# Altium schematic symbol library lib_ic_CAP.SchLib: 33 symbols
Pins are listed as number, name and electrical type; pins without a type are passive.

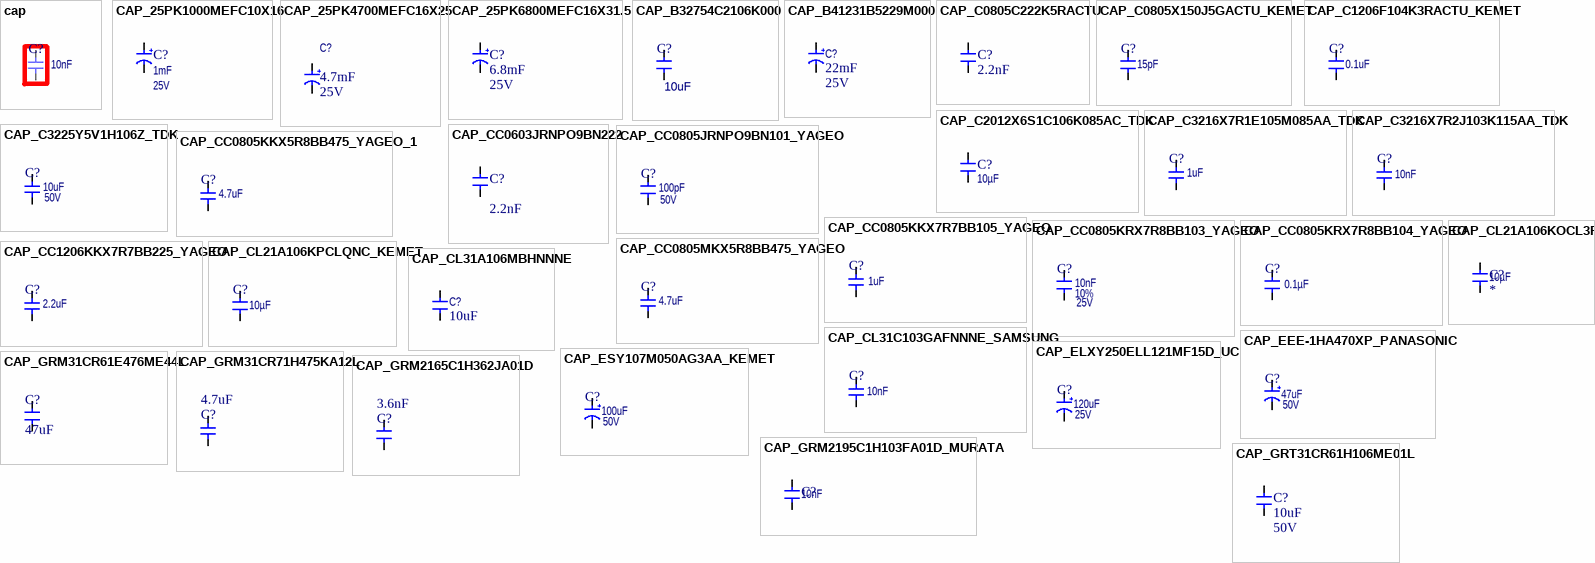
[diagram p0: symbols cap to CAP_GRT31CR61H106ME01L]

## cap
designator C?  value 10nF  (hidden comment: *)
Manufacturer: Samsung; Part Number: CL31C103GAFNNNE; Tolerance: 2%; Voltage Rating: 25V; Supplier: *; Supplier Part No: *; Power Rating: *; BOM Populate: *; #Digikey: 1276-2830-1-ND
footprint CAPC2013X110N (Chip Capacitor, 0805, Body 2.0x1.3mm, IPC Medium Density)
pins: 1 T1, 2 T2

## CAP_25PK1000MEFC10X16
designator C?  Capacitance: 1mF  Voltage: 25V  (hidden comment: *)
CAP ALUM 1000UF 20% 25V RADIAL; Manufacturer: Rubycon; Manufacturer Part Number: 25PK1000MEFC10X16; Ripple Current: 870mA; Leakage Current: 3uA; Life (Hours): 2000Hour; Lead Diameter: 0.6mm; Supplier 1: Digi-Key; Supplier Part Number 1: 1189-1217-ND; RoHS: Yes; Category: Aluminum Electrolytic Capacitors; Stock 1: 3614; Pricing 1: 1=0,52000, 10=0,36400, 50=0,27560, 100=0,24000, 500=0,17780, 1000=0,15113, 2500=0,14224, 5000=0,13335 (USD); Mount: Through Hole; Case/Package: Radial; Number of Pins: 2; Min Operating Temperature: -40°C; Max Operating Temperature: 85°C; Tolerance: 20%; Termination: Radial; Voltage Rating (DC): 25V; Package Quantity: 1000; Voltage Rating: 25V; Packaging: Bulk; Diameter: 10mm; Height: 16mm; Lead Pitch: 5mm; Height - Seated (Max): 0.689inch; Radiation Hardening: No; REACH SVHC: Unknown; ComponentLink1URL: https://datasheet.ciiva.com/25614/0900766b810f8819-25614293.pdf?src-supplier=RSComponents; ComponentLink1Description: https://datasheet.ciiva.com/25614/0900766b810f8819-25614293.pdf?src-supplier=RSComponents; ComponentLink2URL: https://datasheet.ciiva.com/17514/e-pk-17514519.pdf?src-supplier=Avnet+Europe; ComponentLink2Description: https://datasheet.ciiva.com/17514/e-pk-17514519.pdf?src-supplier=Avnet+Europe; ComponentLink3URL: https://datasheet.ciiva.com/6328/e-pk-6328392.pdf?src-supplier=Digi-Key; ComponentLink3Description: https://datasheet.ciiva.com/6328/e-pk-6328392.pdf?src-supplier=Digi-Key
footprint CAP25PK1000MEFC10X16
pins: 1, 2

## CAP_25PK4700MEFC16X25
designator C?  value 4.7mF  Voltage: 25V  (hidden comment: *)
CAP ALUM 4700UF 20% 25V RADIAL; Manufacturer: Rubycon; Manufacturer Part Number: 25PK4700MEFC16X25; Ripple Current: 2.12A; Leakage Current: 3uA; Life (Hours): 2000Hour; Lead Diameter: 0.8mm; Supplier 1: Digi-Key; Supplier Part Number 1: 1189-1732-ND; RoHS: Yes; Category: Aluminum Electrolytic Capacitors; Stock 1: 2308; Pricing 1: 1=1,26000, 10=0,99600, 50=0,86300, 100=0,74680, 500=0,56424, 1000=0,49785, 2500=0,46466, 5000=0,44807 (USD); Mount: Through Hole; Case/Package: Radial; Number of Pins: 2; Min Operating Temperature: -40°C; Max Operating Temperature: 85°C; Capacitance: 4.7mF; Termination: Radial; Voltage Rating: 25V; Ripple Current (AC): 2.12A; Package Quantity: 600; Packaging: Bulk; Voltage Rating (DC): 25V; Diameter: 16mm; Height: 25mm; Lead Pitch: 7.5mm; Height - Seated (Max): 1.063inch; Radiation Hardening: No; REACH SVHC: Unknown; ComponentLink1URL: https://datasheet.ciiva.com/25614/0900766b810f8819-25614291.pdf?src-supplier=RSComponents; ComponentLink1Description: https://datasheet.ciiva.com/25614/0900766b810f8819-25614291.pdf?src-supplier=RSComponents; ComponentLink2URL: https://datasheet.ciiva.com/6312/e-pk-6312270.pdf?src-supplier=Digi-Key; ComponentLink2Description: https://datasheet.ciiva.com/6312/e-pk-6312270.pdf?src-supplier=Digi-Key; Tolerance: 20%
footprint CAP25PK4700MEFC16X25
pins: 1, 2

## CAP_25PK6800MEFC16X31.5
designator C?  Capacitance: 6.8mF  Voltage Rating: 25V  (hidden comment: *)
CAP ALUM 6800UF 20% 25V RADIAL; Manufacturer: Rubycon; Manufacturer Part Number: 25PK6800MEFC16X31.5; Ripple Current: 2.44A; Polarity: Polar; Life (Hours): 2000Hour; Supplier 1: Digi-Key; Supplier Part Number 1: 1189-1221-ND; RoHS: Yes; Category: Aluminum Electrolytic Capacitors; Stock 1: 1157; Pricing 1: 1=1,68000, 10=1,32800, 50=1,15120, 100=0,99630, 500=0,75276, 1000=0,66420, 2500=0,61992, 5000=0,59778 (USD); Mount: Through Hole; Case/Package: Radial; Number of Pins: 2; Min Operating Temperature: -40°C; Max Operating Temperature: 85°C; Tolerance: 20%; Termination: Radial; Voltage Rating (DC): 25V; Ripple Current (AC): 2.44A; Package Quantity: 200; Packaging: Bulk; Diameter: 16mm; Height: 31.5mm; Lead Pitch: 7.5mm; Height - Seated (Max): 1.299inch; Radiation Hardening: No; REACH SVHC: Unknown; ComponentLink1URL: https://datasheet.ciiva.com/11692/e-pk-11692263.pdf?src-supplier=Avnet; ComponentLink1Description: https://datasheet.ciiva.com/11692/e-pk-11692263.pdf?src-supplier=Avnet; ComponentLink2URL: https://datasheet.ciiva.com/17514/e-pk-17514538.pdf?src-supplier=Avnet+Europe; ComponentLink2Description: https://datasheet.ciiva.com/17514/e-pk-17514538.pdf?src-supplier=Avnet+Europe
footprint CAP25PK6800MEFC16X31
pins: 1, 2

## CAP_B32754C2106K000
designator C?  Capacitance: 10uF
Cap Film 10uF 500V PP 10% (31.5 X 22 X 36.5mm) Dipped Radial 27.5mm 105°C Bulk; Manufacturer: TDK EPCOS; Manufacturer Part Number: B32754C2106K000; Voltage Rating (AC): 250V; ESR (Equivalent Series Resistance): 4.2mR; Supplier 1: Digi-Key; RoHS: No; Category: Film Capacitors; Stock 1: 338; Pricing 1: 1=5,13000, 10=4,62000, 50=4,00380, 100=3,49040, 500=2,87448, 1000=2,78648 (USD); Mount: Through Hole; Case/Package: Radial; Dielectric Material: PP; Min Operating Temperature: -40°C; Max Operating Temperature: 105°C; Packaging: Bulk; Tolerance: 10%; Voltage Rating (DC): 500V; Termination: PC Pins; RoHS Compliant: No; ComponentLink1URL: https://en.tdk.eu/inf/20/20/ds/MKP_B32754_758.pdf?src-supplier=Digi-Key; ComponentLink1Description: https://en.tdk.eu/inf/20/20/ds/MKP_B32754_758.pdf?src-supplier=Digi-Key; Supplier Part Number 1: 495-76101-ND
footprint C180H110
pins: 1 T1, 2 T2

## CAP_B41231B5229M000
designator C?  value 22mF  Voltage Rating: 25V  (hidden comment: *)
Cap Aluminum Lytic 22000uF 25V 20% (35 X 30mm) Snap-In 10mm 5510mA 2000h 85C Bulk; Manufacturer: TDK EPCOS; Manufacturer Part Number: B41231B5229M000; Dielectric Material: Aluminium; Ripple Current: 5.51A; Life (Hours): 2000Hour; Dissipation Factor: 0.4%; Test Frequency: 120Hz; Lead Diameter: 0.8mm; Supplier 1: Mouser; Supplier Part Number 1: 871-B41231B5229M000; RoHS: Yes; Category: Aluminum Electrolytic Capacitors; Stock 1: 96; Pricing 1: 1=3,59000, 10=2,90000, 100=2,26000, 250=1,86000, 500=1,68000, 1000=1,57000 (USD); Mount: Through Hole; Case/Package: Aluminum; Number of Pins: 2; Contact Plating: Tin; Min Operating Temperature: -40°C; Max Operating Temperature: 85°C; Package Quantity: 60; Voltage Rating (DC): 25V; Capacitance: 22mF; Tolerance: 20%; Packaging: Bulk; Termination: Snap in; Diameter: 35mm; Length: 45mm; Height: 30mm; Lead Pitch: 10mm; REACH SVHC: No SVHC; ComponentLink1URL: http://components.arrow.com/part/dataview/0323_01877614?src-supplier=Arrow+Europe; ComponentLink1Description: http://components.arrow.com/part/dataview/0323_01877614?src-supplier=Arrow+Europe; ComponentLink2URL: http://www.farnell.com/datasheets/2130718.pdf?src-supplier=Farnell; ComponentLink2Description: http://www.farnell.com/datasheets/2130718.pdf?src-supplier=Farnell; ComponentLink3URL: http://www.farnell.com/datasheets/1884917.pdf?src-supplier=Element14; ComponentLink3Description: http://www.farnell.com/datasheets/1884917.pdf?src-supplier=Element14; ComponentLink4URL: http://en.tdk.eu/inf/20/30/db/aec_2015/B41252.pdf?src-supplier=Mouser; ComponentLink4Description: http://en.tdk.eu/inf/20/30/db/aec_2015/B41252.pdf?src-supplier=Mouser; ComponentLink5URL: http://www.epcos.com/inf/20/30/db/aec_2011/B41231.pdf?src-supplier=Avnet; ComponentLink5Description: http://www.epcos.com/inf/20/30/db/aec_2011/B41231.pdf?src-supplier=Avnet
pins: 1, 2

## CAP_C0805C222K5RACTU
designator C?  value 2.2nF  (hidden comment: *)
Cap Ceramic 0.0022uF 50V X7R 10% SMD 0805 125°C Paper T/R; Manufacturer: KEMET; Manufacturer Part Number: C0805C222K5RACTU; Dissipation Factor: 2.5%; Supplier 1: Digi-Key; Supplier Part Number 1: 399-1151-1-ND; Category: Ceramic Capacitors; Mount: Surface Mount,PCB; Case/Package: 0805; Number of Pins: 2; Dielectric Material: Ceramic; Case Code (Imperial): 0805; Case Code (Metric): 2012; Min Operating Temperature: -55°C; Max Operating Temperature: 125°C; Tolerance: 10%; Packaging: Tape and Reel; Capacitance: 2.2nF; Dielectric: X7R; Voltage Rating (DC): 50V; Voltage: 50V; Package Quantity: 1; Series: C; Voltage Rating: 50V; Termination: SMD/SMT; Construction: Flat; Length: 2mm; Width: 0.049inch; Height: 0.78mm; Depth: 1.25mm; Lead Pitch: 0.75mm; Thickness: 0.035inch; Radiation Hardening: No; RoHS Compliant: Yes; REACH SVHC: No SVHC; ComponentLink1URL: https://datasheet.ciiva.com/28692/1851736-28692973.pdf?src-supplier=Element14; ComponentLink1Description: https://datasheet.ciiva.com/28692/1851736-28692973.pdf?src-supplier=Element14; ComponentLink2URL: https://datasheet.ciiva.com/28584/kem-c1002-x7r-smd-28584143.pdf?src-supplier=Element14; ComponentLink2Description: https://datasheet.ciiva.com/28584/kem-c1002-x7r-smd-28584143.pdf?src-supplier=Element14
footprint CAPC2013X110N (Chip Capacitor, 0805, Body 2.0x1.3mm, IPC Medium Density)
pins: 1 T1, 2 T2

## CAP_C0805X150J5GACTU_KEMET
designator C?  value 15pF  (hidden comment: *)
CAP CER 15PF 50V NP0 0805; Manufacturer: Kemet; Manufacturer Part Number: C0805X150J5GACTU; Tolerance: 5%; Digikey Part Number: 399-7428-1-ND; Supplier: *; Power Rating: *; Voltage Rating: 50V; BOM Populate: *; Mouser Part Number: 80-C0805X150J5G
footprint CAPC2013X110N (Chip Capacitor, 0805, Body 2.0x1.3mm, IPC Medium Density)
pins: 1 T1, 2 T2

## CAP_C1206F104K3RACTU_KEMET
designator C?  value 0.1uF  (hidden comment: *)
CAP CER 0.1UF 25V X7R 1206; Manufacturer: Kemet; Manufacturer Part Number: C1206F104K3RACTU; Tolerance: 5%; Digikey Part Number: 399-5615-1-ND; Supplier: *; Power Rating: *; Voltage Rating: 25V; BOM Populate: *; Mouser Part Number: 80-C1206F104K3R
footprint CAPC3216X135N_B (Chip Capacitor, 1206, UL840 2mm, Body 3.2x1.6mm, IPC Medium Density)
pins: 1 T1, 2 T2

## CAP_C2012X6S1C106K085AC_TDK
designator C?  value 10µF  (hidden comment: *)
CAP CER 10UF 16V 10% X6S 0805; Manufacturer: TDK Corporation; Manufacturer Part Number: C2012X6S1C106K085AC; Supplier: *; Supplier Part No: 4321; Tolerance: 10%; Power Rating: *; BOM Populate: *; Digikey Part Number: 445-14483-1-ND; Mouser Part Number: 810-C2012X6S1C106K0C; Voltage Rating: 16V
footprint CAPC2013X110N (Chip Capacitor, 0805, Body 2.0x1.3mm, IPC Medium Density)
pins: 1 T1, 2 T2

## CAP_C3216X7R1E105M085AA_TDK
designator C?  value 1uF  (hidden comment: *)
1 µF, 25 V, Capacitores cerámicos, X7R, 1206 (3216 métrico), 0.126" L x 0.063" A (3.20 mm x 1.60 mm); Manufacturer: TDK; Manufacturer Part Number: C3216X7R1E105M085AA; Tolerance: 20%; Voltage Rating: 25V; Supplier: *; Supplier Part No: *; Power Rating: *; BOM Populate: *; Digikey Part Number: 445-4024-1-ND; Mouser Part Number: 810-C3216X7R1E105M-2
footprint CAPC3216X135N_B (Chip Capacitor, 1206, UL840 2mm, Body 3.2x1.6mm, IPC Medium Density)
pins: 1 T1, 2 T2

## CAP_C3216X7R2J103K115AA_TDK
designator C?  value 10nF  (hidden comment: *)
10000pF, 630 V, Capacitores cerámicos, X7R, 1206 (3216 métrico), 0.126" L x 0.063" A (3.20 mm x 1.60 mm); Manufacturer: TDK; Manufacturer Part Number: C3216X7R2J103K115AA; Tolerance: 10%; Voltage Rating: 630 V; Supplier: *; Supplier Part No: *; Power Rating: *; BOM Populate: *; Digikey Part Number: 445-2291-1-ND; Mouser Part Number: 810-C3216X7R2J103K
footprint CAPC3216X135N_B (Chip Capacitor, 1206, UL840 2mm, Body 3.2x1.6mm, IPC Medium Density)
pins: 1 T1, 2 T2

## CAP_C3225Y5V1H106Z_TDK
designator C?  value 10uF  Voltage Rating: 50V  (hidden comment: *)
10 µF, 50 V, Capacitores cerámicos, Y5V (F), 1210 (3225 métrico), 0.126" L x 0.098" A (3.20 mm x 2.50 mm); Manufacturer: TDK; Tolerance: 20%; Supplier: *; Supplier Part No: *; Power Rating: *; BOM Populate: *; Digikey Part Number: 445-3479-1-ND; Mouser Part Number: *; Manufacturer Part Number: *
footprint CAPC3225X135N (Chip Capacitor, 1210, Body 3.2x2.5mm, IPC Medium Density)
pins: 1 T1, 2 T2

## CAP_CC0603JRNPO9BN222
designator C?, comment value 2.2nF  (hidden comment: CC0603JRNPO9BN222)
Cap Ceramic 0.0022uF 50V C0G 5% SMD 0603 125C Paper T/R; Manufacturer: Yageo; Supplier 1: Digi-Key; Supplier Part Number 1: 311-1771-1-ND; Manufacturer Part Number: CC0603JRNPO9BN222; RoHS: Yes; Category: Ceramic Capacitors; Stock 1: 8406; Pricing 1: 1=0,16000, 10=0,11100, 50=0,06300, 100=0,05220, 500=0,03660, 1000=0,03030 (USD); Mount: Surface Mount; Case/Package: 0603; Case Code (Imperial): 0603; Case Code (Metric): 1608; Weight: 7.1E-05oz; Min Operating Temperature: -55°C; Max Operating Temperature: 125°C; Voltage Rating (DC): 50V; Tolerance: 5%; Packaging: Tape and Reel; Voltage Rating: 50V; Termination: SMD/SMT; Resistor Type: Ceramic; Dielectric: C0G; Capacitance: 2.2nF; Length: 0.063inch; Width: 0.031inch; Thickness: 0.035inch; Depth: 0.8mm; ComponentLink1URL: https://datasheet.ciiva.com/13264/upy-gp-np0-16v-to-50v-8-3714-13264909.pdf?src-supplier=Mouser; ComponentLink1Description: https://datasheet.ciiva.com/13264/upy-gp-np0-16v-to-50v-8-3714-13264909.pdf?src-supplier=Mouser
pins: 1 T1, 2 T2

## CAP_CC0805JRNPO9BN101_YAGEO
designator C?  value 100pF  Voltage Rating: 50V  (hidden comment: *)
CAP CER 100PF 50V NPO 0805; Manufacturer: Yageo; Manufacturer Part Number: CC0805JRNPO9BN101; Tolerance: 5%; Digikey Part Number: 311-1111-1-ND; Supplier: *; Power Rating: *; BOM Populate: *; Mouser Part Number: 603-CC805JRNPO9BN101
footprint CAPC2013X110N (Chip Capacitor, 0805, Body 2.0x1.3mm, IPC Medium Density)
pins: 1 T1, 2 T2

## CAP_CC0805KKX5R8BB475_YAGEO_1
designator C?  value 4.7uF  (hidden comment: *)
CAP CER 4.7UF 25V X5R 0805; Manufacturer: YAGEO; Manufacturer Part Number: CC0805KKX5R8BB475; Tolerance: 10%; Voltage Rating: 25V; Digikey Part Number: 311-1904-1-ND; Mouser Part Number: 603-CC805KKX5R8BB475
footprint CAPC2013X110N (Chip Capacitor, 0805, Body 2.0x1.3mm, IPC Medium Density)
pins: 1 T1, 2 T2

## CAP_CC0805KKX7R7BB105_YAGEO
designator C?  value 1uF  (hidden comment: *)
CAP CER 1UF 16V X7R 0805; Manufacturer: YAGEO; Manufacturer Part Number: CC0805KKX7R7BB105; Tolerance: 10%; Supplier: *; Supplier Part No: *; Power Rating: *; BOM Populate: *; Voltage Rating: 16V; Digikey Part Number: 311-1365-1-ND; Mouser Part Number: 603-CC805KKX7R7BB105
footprint CAPC2013X110N (Chip Capacitor, 0805, Body 2.0x1.3mm, IPC Medium Density)
pins: 1 T1, 2 T2

## CAP_CC0805KRX7R8BB103_YAGEO
designator C?  value 10nF  Tolerance: 10%  Voltage Rating: 25V  (hidden comment: *)
CAP CER 10000PF 25V X7R 0805; Manufacturer: Yageo; Manufacturer Part Number: CC0805KRX7R8BB103; Digikey Part Number: 311-3579-1-ND; Mouser Part Number: 603-CC805KRX7R8BB103
footprint CAPC2013X110N (Chip Capacitor, 0805, Body 2.0x1.3mm, IPC Medium Density)
pins: 1 T1, 2 T2

## CAP_CC0805KRX7R8BB104_YAGEO
designator C?  value 0.1µF  (hidden comment: *)
CAP CER 0.1UF 25V 10% X7R 0805; Manufacturer: Yageo; Manufacturer Part Number: CC0805KRX7R8BB104; Digikey Part Number: 311-1141-1-ND; Supplier: *; Tolerance: 10%; Power Rating: *; Voltage Rating: 25V; BOM Populate: *; Mouser Part Number: 603-CC805KRX7R8BB104
footprint CAPC2013X110N (Chip Capacitor, 0805, Body 2.0x1.3mm, IPC Medium Density)
pins: 1 T1, 2 T2

## CAP_CC0805MKX5R8BB475_YAGEO
designator C?  value 4.7uF  (hidden comment: *)
CAP CER 4.7UF 25V X5R 0805; Manufacturer: YAGEO; Manufacturer Part Number: CC0805MKX5R8BB475; Tolerance: 20%; Voltage Rating: 25V; Digikey Part Number: 311-1904-1-ND; Mouser Part Number: 603-CC805MKX5R8BB475
footprint CAPC2013X110N (Chip Capacitor, 0805, Body 2.0x1.3mm, IPC Medium Density)
pins: 1 T1, 2 T2

## CAP_CC1206KKX7R7BB225_YAGEO
designator C?  value 2.2uF  (hidden comment: *)
CAP CER 2.2UF 16V X7R 1206; Manufacturer: YAGEO; Manufacturer Part Number: CC1206KKX7R7BB225; Tolerance: 10%; Supplier: *; Supplier Part No: *; Power Rating: *; BOM Populate: *; Voltage Rating: 16V; Digikey Part Number: 311-1957-1-ND; Mouser Part Number: 603-CC126KKX7R7BB225
footprint CAPC3216X135N_B (Chip Capacitor, 1206, UL840 2mm, Body 3.2x1.6mm, IPC Medium Density)
pins: 1 T1, 2 T2

## CAP_CL21A106KOCL3RC
designator C?  value 10µF
CAP CER 10UF 16V X5R 0805; Manufacturer: Samsung; Manufacturer Part Number: CL21A106KOCL3RC; Tolerance: 10%; Supplier 1: Future Electronics; RoHS: Yes; Category: Ceramic Capacitors; Stock 1: 3934; Pricing 1: 1=0,10400, 50=0,08230, 100=0,07900, 500=0,07190, 1500=0,06740 (USD); Mount: Surface Mount; Case/Package: 0805; Case Code (Metric): 2012; Case Code (Imperial): 0805; Min Operating Temperature: -55°C; Max Operating Temperature: 85°C; Package Quantity: 1; Packaging: Tape and Reel; Voltage Rating: 16V; Length: 0.079inch; Width: 0.049inch; Thickness: 0.037inch; ComponentLink1URL: https://datasheet.ciiva.com/25796/cl21a106kocl3rc-25796224.pdf?src-supplier=Digi-Key; ComponentLink1Description: https://datasheet.ciiva.com/25796/cl21a106kocl3rc-25796224.pdf?src-supplier=Digi-Key; Supplier Part Number 1: 8109145; Capacitance: 10µF
footprint CAPC2013X110N (Chip Capacitor, 0805, Body 2.0x1.3mm, IPC Medium Density)
pins: 1 T1, 2 T2

## CAP_CL21A106KPCLQNC_KEMET
designator C?  value 10µF  (hidden comment: *)
CAP CER 10UF 10V X5R 0805; Manufacturer: Kemet; Manufacturer Part Number: CL21A106KPCLQNC; Tolerance: 10%; Digikey Part Number: 1276-2402-1-ND; Voltage Rating: 10V
footprint CAPC2013X110N (Chip Capacitor, 0805, Body 2.0x1.3mm, IPC Medium Density)
pins: 1 T1, 2 T2

## CAP_CL31A106MBHNNNE
designator C?  value 10uF  (hidden comment: *)
CAP CER 10UF 50V X5R 1206; Manufacturer: Samsung; Manufacturer Part Number: CL31A106MBHNNNE; Tolerance: 20%; Supplier 1: Digi-Key; Supplier Part Number 1: 1276-6736-6-ND; RoHS: Yes; Category: Ceramic Capacitors; Stock 1: 1557565; Pricing 1: 1=0,29000, 10=0,20000, 50=0,13340, 100=0,11340, 500=0,08004, 1000=0,07004 (USD); Mount: Surface Mount; Case/Package: 1206; Case Code (Imperial): 1206; Case Code (Metric): 3216; Min Operating Temperature: -55°C; Max Operating Temperature: 85°C; Dielectric: X5R; Voltage Rating (DC): 50V; Packaging: Tape and Reel; Capacitance: 10uF; Length: 0.126inch; Width: 0.063inch; Thickness: 0.071inch; ComponentLink1URL: http://www.samsungsem.com/kr/support/product-search/mlcc/CL31A106MBHNNNE.jsp?src-supplier=Digi-Key; ComponentLink1Description: http://www.samsungsem.com/kr/support/product-search/mlcc/CL31A106MBHNNNE.jsp?src-supplier=Digi-Key; Voltage Rating: 50V
footprint CAP_CL31A106MBHNNNE
pins: 1 T1, 2 T2

## CAP_CL31C103GAFNNNE_SAMSUNG
designator C?  value 10nF  (hidden comment: *)
CAP CER 10000PF 25V NP0 1206; Manufacturer: Samsung; Part Number: CL31C103GAFNNNE; Tolerance: 2%; Supplier: *; Supplier Part No: *; Power Rating: *; BOM Populate: *; Voltage Rating: 25V; Digikey Part Number: 1276-2830-1-ND; Mouser Part Number: *; Manufacturer Part Number: *
footprint CAPC3216X135N_B (Chip Capacitor, 1206, UL840 2mm, Body 3.2x1.6mm, IPC Medium Density)
pins: 1 T1, 2 T2

## CAP_EEE-1HA470XP_PANASONIC
designator C?  value 47uF  Voltage Rating: 50V  (hidden comment: *)
47µF 50V Aluminum Capacitors Radial, Can - SMD 2000 Hrs @ 85°C; Manufacturer: Panasonic; Manufacturer Part Number: EEE-1HA470XP; Tolerance: 20%; BOM Populate: *; Power Rating: *; Supplier Part No: *; Supplier: *; Digikey Part Number: PCE3929CT-ND; Petra Part No: *; Mouser Part Number: 667-EEE-1HA470XP
footprint CAPAE630770X770N (SMD Aluminum Electrolytic Capacitor; Body: 6.3x7.7 mm (DxL) // Source: UD series, Nichicon)
pins: 1, 2

## CAP_ELXY250ELL121MF15D_UC
designator C?  value 120uF  Voltage Rating: 25V  (hidden comment: *)
CAP ALUM 120UF 20% 25V RADIAL; Manufacturer Part Number: ELXY250ELL121MF15D; BOM Populate: *; Power Rating: *; Supplier Part No: *; Supplier: *; Digikey Part Number: 565-1791-ND; Tolerance: 20%; Petra Part No: *; Mouser Part Number: 661-ELXY250ELL121MF1
footprint CAPPRD250W50D630H1250 (Capacitor, Polarized Radial Diameter, 2.5 Lead Spacing, 0.5 Lead Width, 6.3 Diameter, 12.5 Height)
pins: 1, 2

## CAP_ESY107M050AG3AA_KEMET
designator C?  value 100uF  Voltage Rating: 50V  (hidden comment: *)
CAP ALUM 100UF 20% 50V RADIAL; Manufacturer Part Number: ESY107M050AG3AA; BOM Populate: *; Power Rating: *; Supplier Part No: *; Supplier: *; Digikey Part Number: 399-6119-ND; Tolerance: 20%; Petra Part No: *; Mouser Part Number: 80-ESY107M050AG3AA
footprint CAPPRD350W60D800H1200 (Capacitor, Polarized Radial Diameter, 3.5 Lead Spacing, 0.6 Lead Width, 8.0 Diameter, 12.0 Height)
pins: 1, 2

## CAP_GRM31CR61E476ME44L
designator C?  Capacitance: 47uF  (hidden comment: *)
CAP CER 47UF 25V X5R 1206; Manufacturer: Murata; Manufacturer Part Number: GRM31CR61E476ME44L; Tolerance: 20%; Supplier 1: Digi-Key; RoHS: Yes; Category: Ceramic Capacitors; Stock 1: 122000; Pricing 1: 2000=0,37770, 4000=0,35816 (USD); Voltage Rating (DC): 25V; Dielectric: X5R; Length: 3.2mm; Width: 1.6mm; Thickness: 1.6mm; ComponentLink1URL: https://search.murata.co.jp/Ceramy/image/img/A01X/partnumbering_e_01.pdf?src-supplier=Digi-Key; ComponentLink1Description: https://search.murata.co.jp/Ceramy/image/img/A01X/partnumbering_e_01.pdf?src-supplier=Digi-Key; Supplier Part Number 1: 490-16268-2-ND
footprint CAPC3216X135N_B (Chip Capacitor, 1206, UL840 2mm, Body 3.2x1.6mm, IPC Medium Density)
pins: 1 T1, 2 T2

## CAP_GRM31CR71H475KA12L
designator C?  value 4.7uF  (hidden comment: *)
1206 4.7 uF 50 V ±10% Tolerance X7R SMT Multilayer Ceramic Capacitor; Manufacturer: Murata; Manufacturer Part Number: GRM31CR71H475KA12L; Voltage Rating: 50V; Supplier 1: Newark; Supplier Part Number 1: 24R6347; Category: Ceramic Capacitors; Mount: Surface Mount; Case/Package: 1206; Case Code (Metric): 3216; Case Code (Imperial): 1206; Material: Ceramic; Min Operating Temperature: -55°C; Max Operating Temperature: 125°C; Tolerance: 10%; Packaging: Tape and Reel; Dielectric: X7R; Package Quantity: 2000; Series: GRM; Voltage Rating (DC): 50V; Construction: Flat; Termination: SMD/SMT; Voltage: 50V; Length: 3.2mm; Width: 0.063inch; Height: 1.6mm; Depth: 1.6mm; Thickness: 0.071inch; Radiation Hardening: No; RoHS Compliant: Yes; Lead Free: Lead Free; REACH SVHC: No SVHC; ComponentLink1URL: https://datasheet.ciiva.com/6072/415379-6072784.pdf?src-supplier=Farnell; ComponentLink1Description: https://datasheet.ciiva.com/6072/415379-6072784.pdf?src-supplier=Farnell; ComponentLink2URL: https://datasheet.ciiva.com/3777/2267grm31cr71h475ka1223-3777241.pdf?src-supplier=Arrow+Electronics; ComponentLink2Description: https://datasheet.ciiva.com/3777/2267grm31cr71h475ka1223-3777241.pdf?src-supplier=Arrow+Electronics; ComponentLink3URL: https://datasheet.ciiva.com/29202/450972-da-01-de-vs-chip-kond-1206-4-7-uf-10pr-50-0v-x7r-29202576.pdf?src-supplier=Conrad; ComponentLink3Description: https://datasheet.ciiva.com/29202/450972-da-01-de-vs-chip-kond-1206-4-7-uf-10pr-50-0v-x7r-29202576.pdf?src-supplier=Conrad; ComponentLink4URL: https://datasheet.ciiva.com/29202/451279-da-01-de-vs-kondens-grm31-cr71h-475ka12l-29202365.pdf?src-supplier=Conrad; ComponentLink4Description: https://datasheet.ciiva.com/29202/451279-da-01-de-vs-kondens-grm31-cr71h-475ka12l-29202365.pdf?src-supplier=Conrad; ComponentLink5URL: https://datasheet.ciiva.com/7937/415310-7937749.pdf?src-supplier=Element14; ComponentLink5Description: https://datasheet.ciiva.com/7937/415310-7937749.pdf?src-supplier=Element14; ComponentLink6URL: https://datasheet.ciiva.com/6270/partnumbering-e-01-6270219.pdf?src-supplier=Digi-Key; ComponentLink6Description: https://datasheet.ciiva.com/6270/partnumbering-e-01-6270219.pdf?src-supplier=Digi-Key; ComponentLink7URL: https://datasheet.ciiva.com/6270/partnumbering-e-01-6270217.pdf?src-supplier=Digi-Key; ComponentLink7Description: https://datasheet.ciiva.com/6270/partnumbering-e-01-6270217.pdf?src-supplier=Digi-Key; ComponentLink8URL: https://datasheet.ciiva.com/6270/partnumbering-e-01-6270218.pdf?src-supplier=Digi-Key; ComponentLink8Description: https://datasheet.ciiva.com/6270/partnumbering-e-01-6270218.pdf?src-supplier=Digi-Key
footprint CAPC3216X135N_B (Chip Capacitor, 1206, UL840 2mm, Body 3.2x1.6mm, IPC Medium Density)
pins: 1 T1, 2 T2

## CAP_GRM2165C1H362JA01D
designator C?  value 3.6nF  (hidden comment: *)
CAP CER 3600PF 50V C0G/NP0 0805; Manufacturer: Murata; Manufacturer Part Number: GRM2165C1H362JA01D; Tolerance: 5%; Dielectric: C0G; Supplier 1: Digi-Key; Supplier Part Number 1: 490-3318-1-ND; Category: Ceramic Capacitors; Mount: Surface Mount; Case/Package: 0805; Case Code (Metric): 2012; Case Code (Imperial): 0805; Min Operating Temperature: -55°C; Max Operating Temperature: 125°C; Package Quantity: 1; Packaging: Tape and Reel; Voltage Rating: 50V; Voltage Rating (DC): 50V; Termination: SMD/SMT; Series: GRM; Construction: Flat; Length: 2mm; Width: 0.049inch; Height: 0.6mm; Thickness: 0.028inch; Depth: 1.25mm; Radiation Hardening: No; Lead Free: Lead Free; RoHS Compliant: Yes; ComponentLink1URL: https://datasheet.ciiva.com/29542/grm2165c1h362ja01-01-29542674.pdf?src-supplier=Digi-Key; ComponentLink1Description: https://datasheet.ciiva.com/29542/grm2165c1h362ja01-01-29542674.pdf?src-supplier=Digi-Key; ComponentLink2URL: https://datasheet.ciiva.com/5423/product-5423670.pdf?src-supplier=Mouser; ComponentLink2Description: https://datasheet.ciiva.com/5423/product-5423670.pdf?src-supplier=Mouser; ComponentLink3URL: https://datasheet.ciiva.com/169/partnumbering-e-01-169119.pdf?src-supplier=Digi-Key; ComponentLink3Description: https://datasheet.ciiva.com/169/partnumbering-e-01-169119.pdf?src-supplier=Digi-Key
footprint CAPC2013X110N (Chip Capacitor, 0805, Body 2.0x1.3mm, IPC Medium Density)
pins: 1 T1, 2 T2

## CAP_GRM2195C1H103FA01D_MURATA
designator C?  value 10nF  (hidden comment: *)
CAP CER 10000PF 50V NP0 0805; Manufacturer: Murata Electronics North America; Manufacturer Part Number: GRM2195C1H103FA01D; Tolerance: 1%; Digikey Part Number: 490-8295-1-ND; Supplier: *; Power Rating: *; BOM Populate: *; Mouser Part Number: 81-GRM2195C1H103FA1D; Voltage Rating: 50V
footprint CAPC2013X110N (Chip Capacitor, 0805, Body 2.0x1.3mm, IPC Medium Density)
pins: 1 T1, 2 T2

## CAP_GRT31CR61H106ME01L
designator C?  value 10uF  Voltage Rating: 50V  (hidden comment: *)
Cap Ceramic 10uF 50V X5R 20% Pad SMD 1206 85C Automotive T/R; Manufacturer: Murata; Manufacturer Part Number: GRT31CR61H106ME01L; Supplier 1: Digi-Key; RoHS: Yes; Category: Ceramic Capacitors; Stock 1: 575627; Pricing 1: 1=0,46000, 10=0,31800, 50=0,22240, 100=0,19060, 500=0,14294, 1000=0,12070 (USD); Mount: Surface Mount; Case/Package: 1206; Case Code (Metric): 3216; Case Code (Imperial): 1206; Min Operating Temperature: -55°C; Max Operating Temperature: 85°C; Packaging: Tape and Reel; Tolerance: 20%; Length: 0.126inch; Width: 0.063inch; Thickness: 0.071inch; Ratings: AEC-Q200; RoHS Compliant: Yes; ComponentLink1URL: http://search.murata.co.jp/Ceramy/image/img/A01X/G101/ENG/GRT31CR61H106ME01-01.pdf?src-supplier=Digi-Key; ComponentLink1Description: http://search.murata.co.jp/Ceramy/image/img/A01X/G101/ENG/GRT31CR61H106ME01-01.pdf?src-supplier=Digi-Key; Supplier Part Number 1: 490-12457-1-ND
footprint CAPC3216X135N_B (Chip Capacitor, 1206, UL840 2mm, Body 3.2x1.6mm, IPC Medium Density)
pins: 1 T1, 2 T2